# Altium schematic symbol library SWDP_proj.SchLib: 8 symbols
Pins are listed as number, name and electrical type; pins without a type are passive.

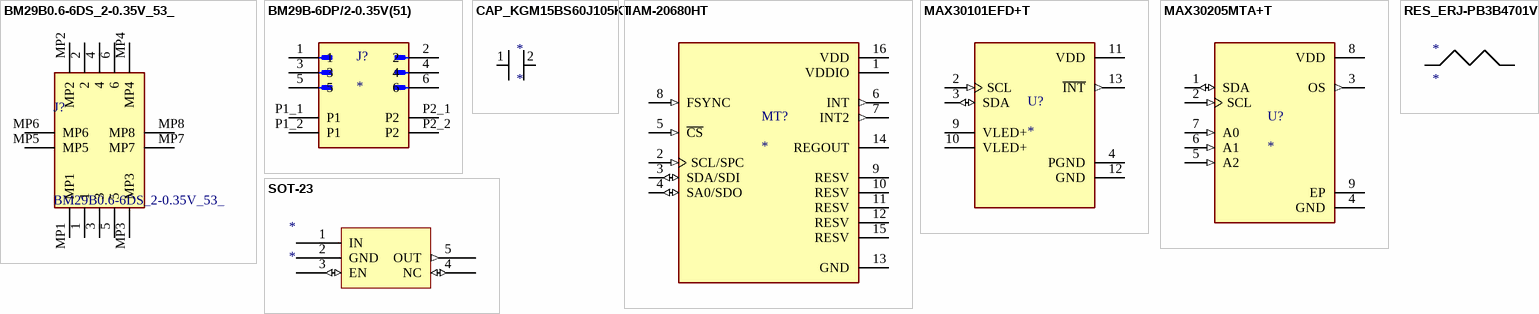
[diagram p0: symbols BM29B0.6-6DS_2-0.35V_53_ to SOT-23]

## BM29B0.6-6DS_2-0.35V_53_
designator J?
FFC & FPC Connectors; Manufacturer_Name: Hirose; Manufacturer_Part_Number: BM29B0.6-6DS/2-0.35V(53); Geometry.Height: 0.7mm; Mouser Part Number: 798-29B066DS/2035V53; Mouser Price/Stock: https://www.mouser.co.uk/ProductDetail/Hirose-Connector/BM29B06-6DS-2-035V53?qs=vmHwEFxEFR%2FomrU63aDooQ%3D%3D; Datasheet Link: https://www.hirose.com/en/product/document?clcode=CL0673-7003-0-53&productname=BM29B0.6-6DS%2f2-0.35V(53)&series=BM29&documenttype=2DDrawing&lang=en&documentid=0001443321; Supplier 1: Avnet; Supplier Part Number 1: BM29B0.6-6DS/2-0.35V(53)
footprint BM29B066DS2035V53
pins: 1, 2, 3, 4, 5, 6, MP1, MP2, MP3, MP4, MP5, MP6, MP7, MP8

## BM29B-6DP/2-0.35V(51)
designator J?
8 (6 + 2 Power) Position Connector Plug, Outer Shroud Contacts Surface Mount Gold; MF: Hirose; MP: BM29B-6DP/2-0.35V(51); SnapEDA_Link: https://www.snapeda.com/parts/BM29B-6DP/2-0.35V(51)/Hirose/view-part/?ref=snap; Package: None; Value: *; Check_prices: https://www.snapeda.com/parts/BM29B-6DP/2-0.35V(51)/Hirose/view-part/?ref=eda; Supplier 1: DigiKey; Supplier Part Number 1: H125294CT-ND
footprint HRS_BM29B-6DP/2-0.35V(51)
pins: 1, 2, 3, 4, 5, 6, P1_1 P1 (power), P1_2 P1 (power), P2_1 P2 (power), P2_2 P2 (power)

## CAP_KGM15BS60J105KT
designator *
Supplier 1: Mouser; Supplier Part Number 1: 581-KGM15BS60J105KT
pins: 1, 2

## IAM-20680HT
designator MT?
MP: IAM-20680HT; Package: None; Price: None; Value: *; Availability: Unavailable
footprint XDCR_IAM-20680HT
pins: 1 VDDIO (power), 2 SCL/SPC (in), 3 SDA/SDI (io), 4 SA0/SDO (io), 5 ~{CS} (in), 6 INT (out), 7 INT2 (out), 8 FSYNC (in), 9 RESV, 10 RESV, 11 RESV, 12 RESV, 13 GND (power), 14 REGOUT, 15 RESV, 16 VDD (power)

## MAX30101EFD+T
designator U?
Pulse Oximeter and Heart Rate Sensor Digital Output 1.8V 14-Pin OLGA T/R; MP: MAX30101EFD+T; MF: Maxim Integrated Products; Purchase-URL: https://pricing.snapeda.com/search/part/MAX30101EFD+T/?ref=eda; SnapEDA_Link: https://www.snapeda.com/parts/MAX30101EFD+T/Maxim+Integrated/view-part/?ref=snap; Value: *; Check_prices: https://www.snapeda.com/parts/MAX30101EFD+T/Maxim+Integrated/view-part/?ref=eda; Digi-Key_Part_Number: MAX30101EFD+TTR-ND; Package: None; Supplier 1: Farnell; Supplier Part Number 1: 3596283
footprint PSON80P560X330X165-14N
pins: 2 SCL (in), 3 SDA (io), 4 PGND (power), 9 VLED+, 10 VLED+, 11 VDD (power), 12 GND (power), 13 ~{INT} (out)

## MAX30205MTA+T
designator U?
Human Body Temperature Sensor; MF: Analog Devices; MP: MAX30205MTA+T; SnapEDA_Link: https://www.snapeda.com/parts/MAX30205MTA+T/Analog+Devices/view-part/?ref=snap; Package: TDFN-EP-8 Maxim; Value: *; Check_prices: https://www.snapeda.com/parts/MAX30205MTA+T/Analog+Devices/view-part/?ref=eda; Supplier 1: Farnell; Supplier Part Number 1: 3921729
footprint SON65P300X300X80-9N
pins: 1 SDA (io), 2 SCL (in), 3 OS (out), 4 GND (power), 5 A2 (in), 6 A1 (in), 7 A0 (in), 8 VDD (power), 9 EP (power)

## RES_ERJ-PB3B4701V
designator *
Supplier 1: Avnet; Supplier Part Number 1: 68AC6324
footprint RES_ERJ-PB3B4701V (0603in resistor)
pins: ?1, ?2

## SOT-23
designator *
footprint SOT95P280X145-5N (SOT23, 5-Leads, Body 2,90x2,80mm, Pitch 0,95mm, IPC Medium Density)
pins: 1 IN (oc), 2 GND (oc), 3 EN (io), 4 NC (io), 5 OUT (out)